# EAGLE library part ARDUINO (library SPCoast)
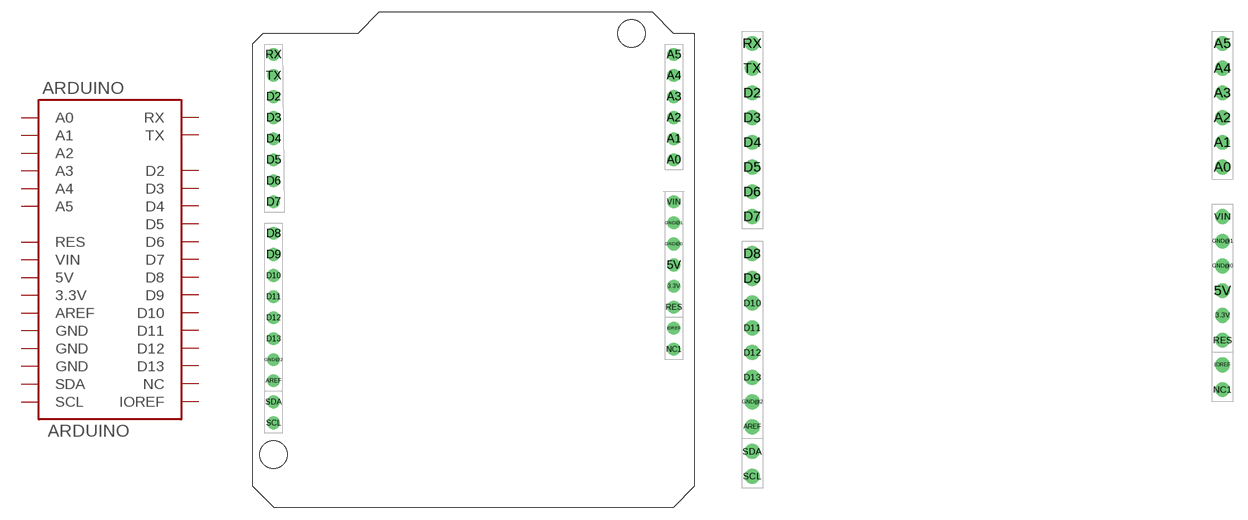
[diagram p0: symbol with the pads of ARDUINO_R3_SHIELD; footprints ARDUINO_R3_SHIELD, ARDUINO_R3_VIAS]

Designator prefix ARDUINO

## ARDUINOR3_SHIELD  [ARDUINO_R3_SHIELD]
3.3V  3.3V
5V  5V
A0  A0
A1  A1
A2  A2
A3  A3
A4  A4
A5  A5
AREF  AREF
D2  D2
D3  D3
D4  D4
D5  D5
D6  D6
D7  D7
D8  D8
D9  D9
D10  D10
D11  D11
D12  D12
D13  D13
GND@0  GND
GND@1  GND
GND@2  GND
IOREF  IOREF
NC1  NC
RES  RES
RX  RX
SCL  SCL
SDA  SDA
TX  TX
VIN  VIN

## ARDUINOR3_VIAS  [ARDUINO_R3_VIAS]
Pads as for ARDUINO_R3_SHIELD

## ARDUINOR3_SHIELD_5X5  [ARDUINO_R3_SHIELD_5X5]
Pads as for ARDUINO_R3_SHIELD

## ARDUINOR3_BOARD  [ARDUINO_R3_BOARD]
Pads as for ARDUINO_R3_SHIELD

## Footprint ARDUINO_R3_SHIELD (pad centres in mm)
drill 1.016: 3.3V 50.8,26.67; 5V 50.8,29.21; A0 50.8,41.91; A1 50.8,44.45; A2 50.8,46.99; A3 50.8,49.53; A4 50.8,52.07; A5 50.8,54.61; AREF 2.54,15.24; D2 2.54,49.53; D3 2.54,46.99; D4 2.54,44.45; D5 2.54,41.91; D6 2.54,39.37; D7 2.54,36.83; D8 2.54,33.02; D9 2.54,30.48; D10 2.54,27.94; D11 2.54,25.4; D12 2.54,22.86; D13 2.54,20.32; GND@0 50.8,31.75; GND@1 50.8,34.29; GND@2 2.54,17.78; IOREF 50.8,21.59; NC1 50.8,19.05; RES 50.8,24.13; RX 2.54,54.61; SCL 2.54,10.16; SDA 2.54,12.7; TX 2.54,52.07; VIN 50.8,36.83
hole 3.302 at 45.72,57.15
hole 3.302 at 2.54,6.35

## Footprint ARDUINO_R3_VIAS (pad centres in mm)
drill 1.016: 3.3V 49.53,17.78; 5V 49.53,20.32; A0 49.53,33.02; A1 49.53,35.56; A2 49.53,38.1; A3 49.53,40.64; A4 49.53,43.18; A5 49.53,45.72; AREF 1.27,6.35; D2 1.27,40.64; D3 1.27,38.1; D4 1.27,35.56; D5 1.27,33.02; D6 1.27,30.48; D7 1.27,27.94; D8 1.27,24.13; D9 1.27,21.59; D10 1.27,19.05; D11 1.27,16.51; D12 1.27,13.97; D13 1.27,11.43; GND@0 49.53,22.86; GND@1 49.53,25.4; GND@2 1.27,8.89; IOREF 49.53,12.7; NC1 49.53,10.16; RES 49.53,15.24; RX 1.27,45.72; SCL 1.27,1.27; SDA 1.27,3.81; TX 1.27,43.18; VIN 49.53,27.94

## Footprint ARDUINO_R3_SHIELD_5X5 (pad centres in mm)
drill 1.016: 3.3V 49.13,20.57; 5V 49.13,23.11; A0 49.13,35.81; A1 49.13,38.35; A2 49.13,40.89; A3 49.13,43.43; A4 49.13,45.97; A5 49.13,48.51; AREF 0.87,9.14; D2 0.87,43.43; D3 0.87,40.89; D4 0.87,38.35; D5 0.87,35.81; D6 0.87,33.27; D7 0.87,30.73; D8 0.87,26.92; D9 0.87,24.38; D10 0.87,21.84; D11 0.87,19.3; D12 0.87,16.76; D13 0.87,14.22; GND@0 49.13,25.65; GND@1 49.13,28.19; GND@2 0.87,11.68; IOREF 49.13,15.49; NC1 49.13,12.95; RES 49.13,18.03; RX 0.87,48.51; SCL 0.87,4.06; SDA 0.87,6.6; TX 0.87,45.97; VIN 49.13,30.73

## Footprint ARDUINO_R3_BOARD (pad centres in mm)
drill 1.016 pad 1.88: 3.3V 50.8,26.67; 5V 50.8,29.21; A0 50.8,41.91; A1 50.8,44.45; A2 50.8,46.99; A3 50.8,49.53; A4 50.8,52.07; A5 50.8,54.61; AREF 2.54,15.24; D2 2.54,49.53; D3 2.54,46.99; D4 2.54,44.45; D5 2.54,41.91; D6 2.54,39.37; D7 2.54,36.83; D8 2.54,33.02; D9 2.54,30.48; D10 2.54,27.94; D11 2.54,25.4; D12 2.54,22.86; D13 2.54,20.32; GND@0 50.8,31.75; GND@1 50.8,34.29; GND@2 2.54,17.78; IOREF 50.8,21.59; NC1 50.8,19.05; RES 50.8,24.13; RX 2.54,54.61; SCL 2.54,10.16; SDA 2.54,12.7; TX 2.54,52.07; VIN 50.8,36.83
hole 3.302 at 45.72,57.15
hole 3.302 at 2.54,6.35